# EAGLE library part 750811612 (library Wurth_Power Magnetics_WE-OLEFD)
WE-OLEFD EFD-Style Offline Flyback Transformers Characteristics Universal input voltage Switching frequency: 68kHz to 170kHz Low Profile Isolation voltage: 4500VAC at 1 second Operating temp: -40°C to +125°C Designed for IEC61558-2 Reinforced 400VDC Applications LED lighting Offline switching power Power electronics Electronics ballasts White goods <https://www.we-online.com/catalog/media/o32905v209%20Family_MID-OLEFD.jpg> Details see: www.we-online.com/en/components/products/WE-OLEFD Created by Ella Wu 2023-04-11 2023 (C) Wurth Elektronik
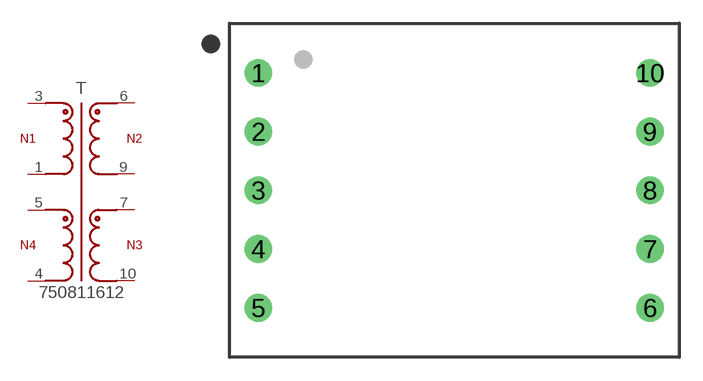
[diagram p21: symbol with the pads of WE-OLEFD_EFD20_THT; footprint WE-OLEFD_EFD20_THT]

Designator prefix T

## 750811612 (DATASHEET-URL: https://www.we-online.com/redexpert/spec/750811612?ae; F-SWTICH: 68 - 110kHz; HEIGHT: 12mm; IOUT1: 1.3A; IOUT2: 1.3A; ISAT1: 1.4A; L1: 800µH; LENGTH: 21.5mm; MOUNT: THT; N: 5.26:0.26:0.26:1; PART-NUMBER: 750811612; VALUE: 750811612; VAUX: 20V; VIN: 85 - 265 V (AC); VOUT1: 5V; VOUT2: 5V; VT: 4500 V (AC); WIDTH: 29mm)  [WE-OLEFD_EFD20_THT]
1  1  pas
3  3  pas
4  4  pas
5  5  pas
6  6  pas
7  7  pas
9  9  pas
10  10  pas

## Footprint WE-OLEFD_EFD20_THT (pad centres in mm)
WE-OLEFD EFD-Style Offline Flyback Transformers Size: EFD20,THT,10pins LXWXH=21.5X29X12mm
drill 1.2: 1 -12.7,7.62; 2 -12.7,3.81; 3 -12.7,0; 4 -12.7,-3.81; 5 -12.7,-7.62; 6 12.7,-7.62; 7 12.7,-3.81; 8 12.7,0; 9 12.7,3.81; 10 12.7,7.62